# Altium integrated library 7S_display.IntLib: 1 symbol
Pins are listed as number, name and electrical type; pins without a type are passive.

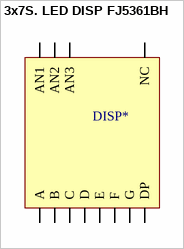
[diagram p0: symbol 3x7S. LED DISP FJ5361BH]

## 3x7S. LED DISP FJ5361BH
designator DISP*
FJ5361BH triple seven-segment display, common anode; ComponentLink1Description: Bootland; ComponentLink1URL: https://botland.com.pl/pl/wyswietlacze-segmentowe-i-matryce-led/6447-wyswietlacz-8-segmentowy-x3-14mm-czerwony-wsp-anoda.html; Model: FJ5361BH
footprint 3x7S. LED DISP FJ5361BH
pins: 1 E, 2 D, 3 DP, 4 C, 5 G, 6 NC, 7 B, 8 AN3, 9 AN2, 10 F, 11 A, 12 AN1